# EAGLE library part AT91SAM7S512/256/128/64/321 (library atmel-arm)
AT91SAM7S512/256/128/64/321 ARM7 Processor
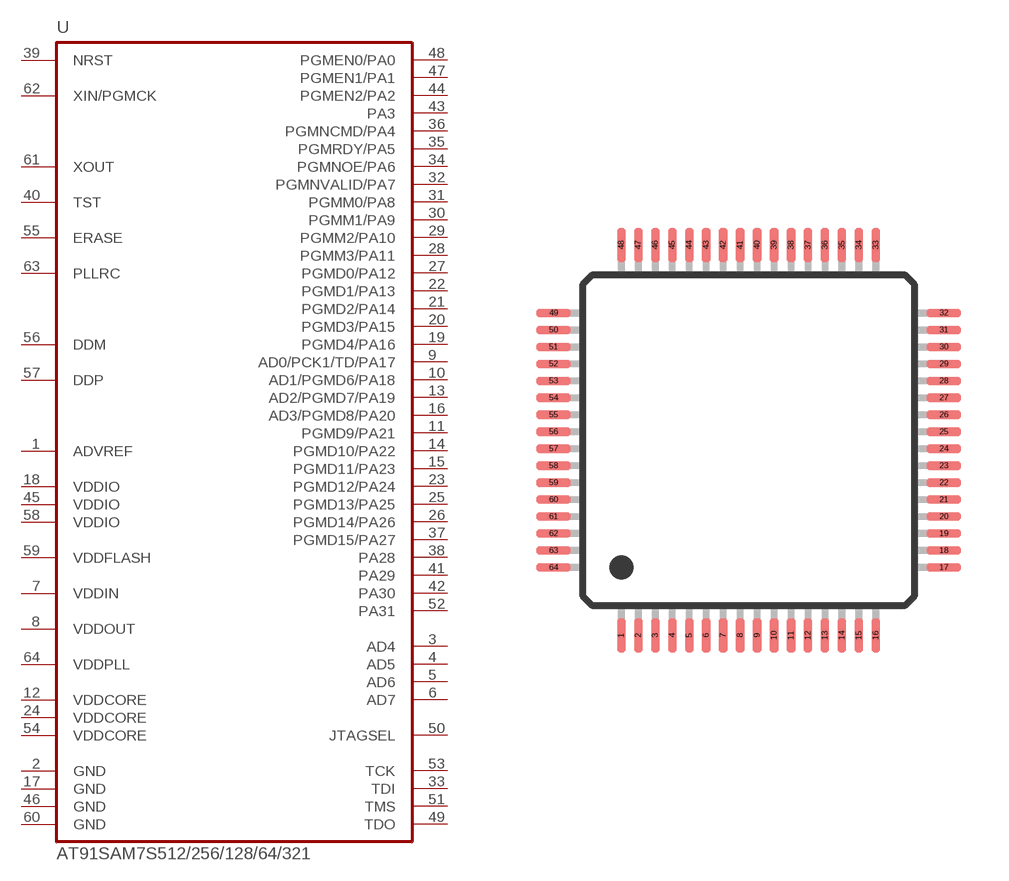
[diagram p0: symbol with the pads of LQFP64; footprint LQFP64]

Designator prefix U

## AT91SAM7S512/256/128/64/321-AU  [LQFP64]
1  ADVREF
2  GND  pwr
3  AD4
4  AD5
5  AD6
6  AD7
7  VDDIN  pwr
8  VDDOUT
9  AD0/PCK1/TD/PA17
10  AD1/PGMD6/PA18
11  PGMD9/PA21
12  VDDCORE
13  AD2/PGMD7/PA19
14  PGMD10/PA22
15  PGMD11/PA23
16  AD3/PGMD8/PA20
17  GND  pwr
18  VDDIO  pwr
19  PGMD4/PA16
20  PGMD3/PA15
21  PGMD2/PA14
22  PGMD1/PA13
23  PGMD12/PA24
24  VDDCORE
25  PGMD13/PA25
26  PGMD14/PA26
27  PGMD0/PA12
28  PGMM3/PA11
29  PGMM2/PA10
30  PGMM1/PA9
31  PGMM0/PA8
32  PGMNVALID/PA7
33  TDI
34  PGMNOE/PA6
35  PGMRDY/PA5
36  PGMNCMD/PA4
37  PGMD15/PA27
38  PA28
39  NRST
40  TST
41  PA29
42  PA30
43  PA3
44  PGMEN2/PA2
45  VDDIO  pwr
46  GND  pwr
47  PGMEN1/PA1
48  PGMEN0/PA0
49  TDO
50  JTAGSEL
51  TMS
52  PA31
53  TCK
54  VDDCORE
55  ERASE
56  DDM
57  DDP
58  VDDIO  pwr
59  VDDFLASH  pwr
60  GND  pwr
61  XOUT
62  XIN/PGMCK
63  PLLRC
64  VDDPLL

## Footprint LQFP64 (pad centres in mm)
LQFP64
smd 0.25 x 1: 1 -3.75,-5.75; 2 -3.25,-5.75; 3 -2.75,-5.75; 4 -2.25,-5.75; 5 -1.75,-5.75; 6 -1.25,-5.75; 7 -0.75,-5.75; 8 -0.25,-5.75; 9 0.25,-5.75; 10 0.75,-5.75; 11 1.25,-5.75; 12 1.75,-5.75; 13 2.25,-5.75; 14 2.75,-5.75; 15 3.25,-5.75; 16 3.75,-5.75; 33 3.75,5.75; 34 3.25,5.75; 35 2.75,5.75; 36 2.25,5.75; 37 1.75,5.75; 38 1.25,5.75; 39 0.75,5.75; 40 0.25,5.75; 41 -0.25,5.75; 42 -0.75,5.75; 43 -1.25,5.75; 44 -1.75,5.75; 45 -2.25,5.75; 46 -2.75,5.75; 47 -3.25,5.75; 48 -3.75,5.75
smd 1 x 0.25: 17 5.75,-3.75; 18 5.75,-3.25; 19 5.75,-2.75; 20 5.75,-2.25; 21 5.75,-1.75; 22 5.75,-1.25; 23 5.75,-0.75; 24 5.75,-0.25; 25 5.75,0.25; 26 5.75,0.75; 27 5.75,1.25; 28 5.75,1.75; 29 5.75,2.25; 30 5.75,2.75; 31 5.75,3.25; 32 5.75,3.75; 49 -5.75,3.75; 50 -5.75,3.25; 51 -5.75,2.75; 52 -5.75,2.25; 53 -5.75,1.75; 54 -5.75,1.25; 55 -5.75,0.75; 56 -5.75,0.25; 57 -5.75,-0.25; 58 -5.75,-0.75; 59 -5.75,-1.25; 60 -5.75,-1.75; 61 -5.75,-2.25; 62 -5.75,-2.75; 63 -5.75,-3.25; 64 -5.75,-3.75